# Altium schematic symbol library Schottky Diode 1amp.SchLib: 1 symbol
Pins are listed as number, name and electrical type; pins without a type are passive.

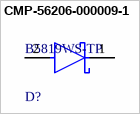
[diagram p0: symbol CMP-56206-000009-1]

## CMP-56206-000009-1
designator D?, comment B5819WS-TP
DIODE SCHOTTKY 40V 1A SOD323; Max Reverse Leakage Current: 1mA; Peak Non-Repetitive Surge Current: 10A; Forward Voltage: 900mV; Element Configuration: Single; Max Reverse Voltage (DC): 40V; Number of Pins: 2; Max Operating Temperature: 125°C; Package Quantity: 1; Radiation Hardening: No; Average Rectified Current: 1A; Lead Free: Lead Free; Series: -; Mount: Surface Mount; Min Operating Temperature: -65°C; RoHS Compliant: Yes; Packaging: Tape and Reel; Max Surge Current: 10A
footprint FP-SOD-323-MFG
footprint FP-SOD-323-IPC_A
footprint FP-SOD-323-IPC_C
footprint FP-SOD-323-IPC_B
pins: 1 C, 2 A